# EAGLE library part AP63203 (library SparkFun-IC-Power)
Diodes Inc. AP63203 3.8V-32V input 3.3V Buck The AP63200/AP63201/AP63203/AP63205 is a 2A, synchronous buck converter with a wide input voltage range of 3.8V to 32V and fully integrates a 125mΩ high-side power MOSFET and a 68mΩ lowside power MOSFET to provide high-efficiency step-down DC/DC conversion
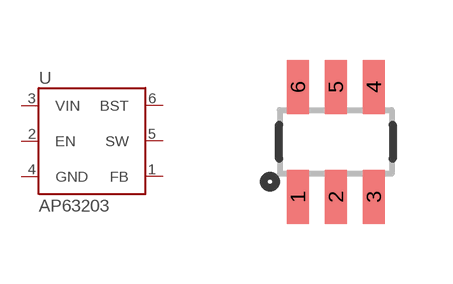
[diagram p8: symbol with the pads of SOT23-6; footprint SOT23-6]

Designator prefix U

## AP63203 (PROD_ID: VREG-15244; VALUE: AP63203)  [SOT23-6]
1  FB
2  EN
3  VIN
4  GND
5  SW
6  BST

## Footprint SOT23-6 (pad centres in mm)
SOT23 (6 pin) Mechanical Layout Landing Pad: 0.55mm X 1.395mm Landing Pad Pitch: 0.95mm 2.7mm vertical distance between pads
smd 0.55 x 1.35: 1 -0.95,-1.375; 2 0,-1.375; 3 0.95,-1.375; 4 0.95,1.375; 5 0,1.375; 6 -0.95,1.375